# Altium integrated library Microchip PIC16 Part 1.IntLib: 1800 symbols (part 74 of 93)
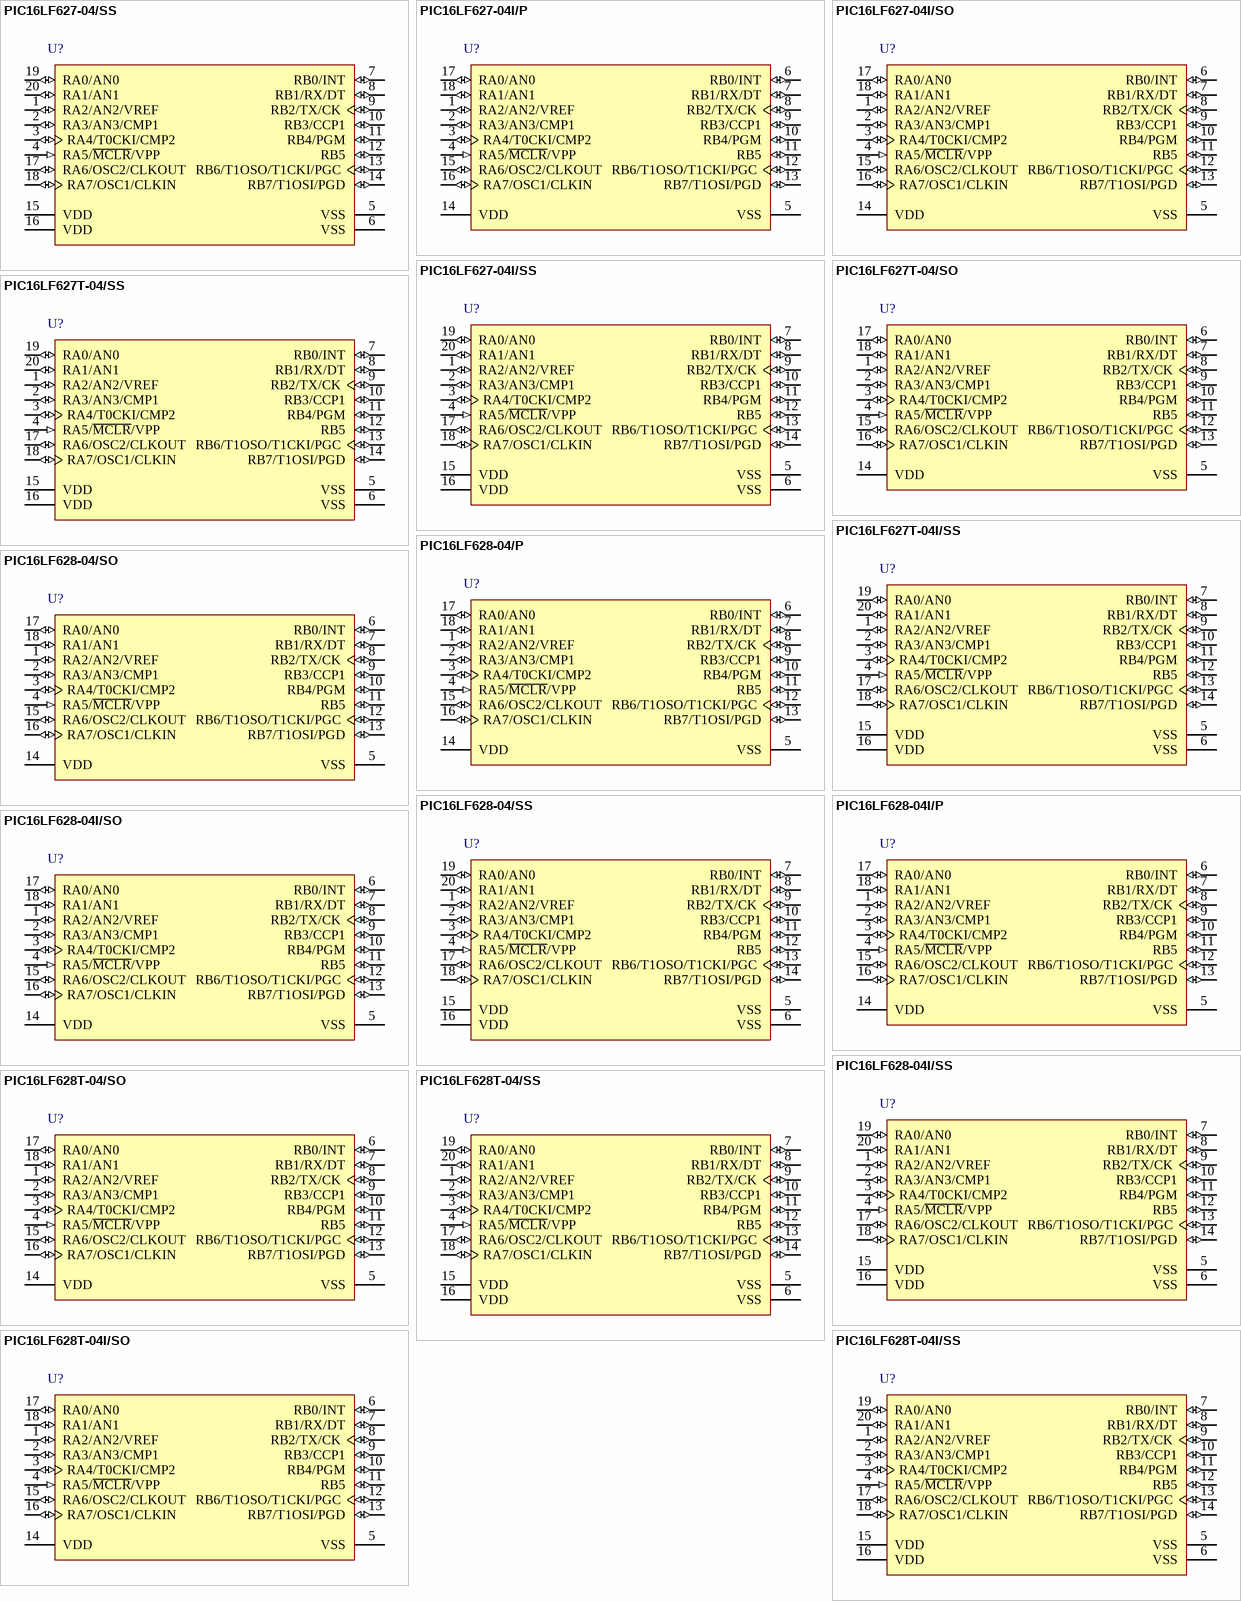
[diagram p172: symbols PIC16LF627-04/SS to PIC16LF628T-04I/SS]

## PIC16LF627-04I/P
designator U?
Flash-Based 8-Bit CMOS Microcontroller, 0.2 MHz, 16 I/O, -40 to 85 degC, 18-pin PDIP (P18), Tube; Manufacturer: Microchip; PartNumber: PIC16LF627-04I/P; Digital Communication: 0 -UART, 1 -A/E/USART, 0 -SPI, 0 -I2C; EEPROM Data Memory (bytes): 128; I/O Pins: 16; Max. CPU Speed MHz: 4; Memory Type: Flash; Operation Voltage Range: 2V - 5.5V; Program Memory KBytes: 1.75; Program Memory KWords: 1; RAM: 224; Timers: 2 - 8-bit, 1 - 16-bit, 0 - 32-bit; DatasheetVersion: Rev. C; PackageVersion: C04-007B, 12/2012; PackageReference: PDIP-P18; PackageDescription: 18-Lead Plastic Dual In-Line, Row Spacing 7.62 mm, 22.86 x 6.6 mm Body, 2.54 mm Pitch; Supplier 1: Digi-Key; Supplier Part Number 1: PIC16LF627-04I/P-ND; Supplier 2: Mouser; Supplier Part Number 2: 579-PIC16LF627-04I/P; Packing: TUBE; RoHS: TRUE; Mounting Technology: Through Hole; ComponentLink1Description: Datasheet; ComponentLink1URL: http://ww1.microchip.com/downloads/en/DeviceDoc/40300C.pdf; ComponentLink2Description: Package Specification; ComponentLink2URL: http://www.microchip.com/stellent/groups/techpub_sg/documents/packagingspec/en012702.pdf; ComponentLink3Description: URL Link1; ComponentLink3URL: Product URL:http://www.microchip.com/datasheet/PIC16F627
footprint MCHP-PDIP-P18 (DIP, 18-Leads, Body 22.83x6.604mm, Pitch 2.54mm)
pins: 1 RA2/AN2/VREF (io), 2 RA3/AN3/CMP1 (io), 3 RA4/T0CKI/CMP2 (io), 4 RA5/~{MCLR}/VPP (in), 5 VSS (power) "Ground reference for logic and I/O pins", 6 RB0/INT (io), 7 RB1/RX/DT (io), 8 RB2/TX/CK (io), 9 RB3/CCP1 (io), 10 RB4/PGM (io), 11 RB5 (io) "Bi-directional I/O port. Interrupt-on-pin change. Can be software programmed for internal weak pull-up.", 12 RB6/T1OSO/T1CKI/PGC (io), 13 RB7/T1OSI/PGD (io), 14 VDD (power) "Positive supply for logic and I/O pins", 15 RA6/OSC2/CLKOUT (io), 16 RA7/OSC1/CLKIN (io), 17 RA0/AN0 (io), 18 RA1/AN1 (io)

## PIC16LF627-04I/SO
designator U?
Flash-Based 8-Bit CMOS Microcontroller, 0.2 MHz, 16 I/O, -40 to 85 degC, 18-pin SOIC (SO18), Tube; Manufacturer: Microchip; PartNumber: PIC16LF627-04I/SO; Digital Communication: 0 -UART, 1 -A/E/USART, 0 -SPI, 0 -I2C; EEPROM Data Memory (bytes): 128; I/O Pins: 16; Max. CPU Speed MHz: 4; Memory Type: Flash; Operation Voltage Range: 2V - 5.5V; Program Memory KBytes: 1.75; Program Memory KWords: 1; RAM: 224; Timers: 2 - 8-bit, 1 - 16-bit, 0 - 32-bit; DatasheetVersion: Rev. C; PackageVersion: C04-051C, 12/2012; PackageReference: SOIC-SO18; PackageDescription: 18-Lead Plastic Small Outline, 7.5 x 11.55 mm Body, 1.27 mm Pitch; Supplier 1: Digi-Key; Supplier Part Number 1: PIC16LF627-04I/SO-ND; Supplier 2: Mouser; Supplier Part Number 2: 579-16LF627-04I/SO; Packing: TUBE; RoHS: TRUE; Mounting Technology: Surface Mount; ComponentLink1Description: Datasheet; ComponentLink1URL: http://ww1.microchip.com/downloads/en/DeviceDoc/40300C.pdf; ComponentLink2Description: Package Specification; ComponentLink2URL: http://www.microchip.com/stellent/groups/techpub_sg/documents/packagingspec/en012702.pdf; ComponentLink3Description: URL Link1; ComponentLink3URL: Product URL:http://www.microchip.com/datasheet/PIC16F627
footprint MCHP-SOIC-SO18_N (SOIC, 18-Leads, Body 11.55x7.5mm, Pitch 1.27mm, IPC Medium Density)
footprint MCHP-SOIC-SO18_L (SOIC, 18-Leads, Body 11.55x7.5mm, Pitch 1.27mm, IPC High Density)
footprint MCHP-SOIC-SO18_M (SOIC, 18-Leads, Body 11.55x7.5mm, Pitch 1.27mm, IPC Low Density)
pins: 1 RA2/AN2/VREF (io), 2 RA3/AN3/CMP1 (io), 3 RA4/T0CKI/CMP2 (io), 4 RA5/~{MCLR}/VPP (in), 5 VSS (power) "Ground reference for logic and I/O pins", 6 RB0/INT (io), 7 RB1/RX/DT (io), 8 RB2/TX/CK (io), 9 RB3/CCP1 (io), 10 RB4/PGM (io), 11 RB5 (io) "Bi-directional I/O port. Interrupt-on-pin change. Can be software programmed for internal weak pull-up.", 12 RB6/T1OSO/T1CKI/PGC (io), 13 RB7/T1OSI/PGD (io), 14 VDD (power) "Positive supply for logic and I/O pins", 15 RA6/OSC2/CLKOUT (io), 16 RA7/OSC1/CLKIN (io), 17 RA0/AN0 (io), 18 RA1/AN1 (io)

## PIC16LF627-04I/SS
designator U?
Flash-Based 8-Bit CMOS Microcontroller, 0.2 MHz, 16 I/O, -40 to 85 degC, 20-pin SSOP (SS20), Tube; Manufacturer: Microchip; PartNumber: PIC16LF627-04I/SS; Digital Communication: 0 -UART, 1 -A/E/USART, 0 -SPI, 0 -I2C; EEPROM Data Memory (bytes): 128; I/O Pins: 16; Max. CPU Speed MHz: 4; Memory Type: Flash; Operation Voltage Range: 2V - 5.5V; Program Memory KBytes: 1.75; Program Memory KWords: 1; RAM: 224; Timers: 2 - 8-bit, 1 - 16-bit, 0 - 32-bit; DatasheetVersion: Rev. C; PackageVersion: C04-072B, 12/2012; PackageReference: SSOP-SS20; PackageDescription: 20-Lead Plastic Shrink Small Outline, 5.3 x 7.2 mm Body, 0.65 mm Pitch; Supplier 1: Digi-Key; Supplier Part Number 1: PIC16LF627-04I/SS-ND; Supplier 2: Mouser; Supplier Part Number 2: 579-16LF627-04I/SS; Packing: TUBE; RoHS: TRUE; Mounting Technology: Surface Mount; ComponentLink1Description: Datasheet; ComponentLink1URL: http://ww1.microchip.com/downloads/en/DeviceDoc/40300C.pdf; ComponentLink2Description: Package Specification; ComponentLink2URL: http://www.microchip.com/stellent/groups/techpub_sg/documents/packagingspec/en012702.pdf; ComponentLink3Description: URL Link1; ComponentLink3URL: Product URL:http://www.microchip.com/datasheet/PIC16F627
footprint MCHP-SSOP-SS20_N (SOP, 20-Leads, Body 7.2x5.3mm, Pitch 0.65mm, IPC Medium Density)
footprint MCHP-SSOP-SS20_L (SOP, 20-Leads, Body 7.2x5.3mm, Pitch 0.65mm, IPC High Density)
footprint MCHP-SSOP-SS20_M (SOP, 20-Leads, Body 7.2x5.3mm, Pitch 0.65mm, IPC Low Density)
pins: 1 RA2/AN2/VREF (io), 2 RA3/AN3/CMP1 (io), 3 RA4/T0CKI/CMP2 (io), 4 RA5/~{MCLR}/VPP (in), 5 VSS (power) "Ground reference for logic and I/O pins", 6 VSS (power) "Ground reference for logic and I/O pins", 7 RB0/INT (io), 8 RB1/RX/DT (io), 9 RB2/TX/CK (io), 10 RB3/CCP1 (io), 11 RB4/PGM (io), 12 RB5 (io) "Bi-directional I/O port. Interrupt-on-pin change. Can be software programmed for internal weak pull-up.", 13 RB6/T1OSO/T1CKI/PGC (io), 14 RB7/T1OSI/PGD (io), 15 VDD (power) "Positive supply for logic and I/O pins", 16 VDD (power) "Positive supply for logic and I/O pins", 17 RA6/OSC2/CLKOUT (io), 18 RA7/OSC1/CLKIN (io), 19 RA0/AN0 (io), 20 RA1/AN1 (io)

## PIC16LF627T-04/SO
designator U?
Flash-Based 8-Bit CMOS Microcontroller, 0.2 MHz, 16 I/O, 0 to 70 degC, 18-pin SOIC (SO18), Tape and Reel; Manufacturer: Microchip; PartNumber: PIC16LF627T-04/SO; Digital Communication: 0 -UART, 1 -A/E/USART, 0 -SPI, 0 -I2C; EEPROM Data Memory (bytes): 128; I/O Pins: 16; Max. CPU Speed MHz: 0.2; Memory Type: Flash; Operation Voltage Range: 2V - 5.5V; Packing: T/R; Program Memory KBytes: 1.75; Program Memory KWords: 1; RAM: 224; Timers: 2 - 8-bit, 1 - 16-bit, 0 - 32-bit; DatasheetVersion: Rev. C; PackageVersion: C04-051C, 12/2012; PackageReference: SOIC-SO18; PackageDescription: 18-Lead Plastic Small Outline, 7.5 x 11.55 mm Body, 1.27 mm Pitch; Supplier 1: Digi-Key; Supplier Part Number 1: PIC16LF627T-04/SO-ND; Supplier 2: Mouser; Supplier Part Number 2: 579-16LF627T-04/SO; Mounting Technology: Surface Mount; ComponentLink1Description: Datasheet; ComponentLink1URL: http://ww1.microchip.com/downloads/en/DeviceDoc/40300C.pdf; ComponentLink2Description: Package Specification; ComponentLink2URL: http://www.microchip.com/stellent/groups/techpub_sg/documents/packagingspec/en012702.pdf; ComponentLink3Description: URL Link1; ComponentLink3URL: Product URL:http://www.microchip.com/datasheet/PIC16F627
footprint MCHP-SOIC-SO18_N (SOIC, 18-Leads, Body 11.55x7.5mm, Pitch 1.27mm, IPC Medium Density)
footprint MCHP-SOIC-SO18_L (SOIC, 18-Leads, Body 11.55x7.5mm, Pitch 1.27mm, IPC High Density)
footprint MCHP-SOIC-SO18_M (SOIC, 18-Leads, Body 11.55x7.5mm, Pitch 1.27mm, IPC Low Density)
pins: 1 RA2/AN2/VREF (io), 2 RA3/AN3/CMP1 (io), 3 RA4/T0CKI/CMP2 (io), 4 RA5/~{MCLR}/VPP (in), 5 VSS (power) "Ground reference for logic and I/O pins", 6 RB0/INT (io), 7 RB1/RX/DT (io), 8 RB2/TX/CK (io), 9 RB3/CCP1 (io), 10 RB4/PGM (io), 11 RB5 (io) "Bi-directional I/O port. Interrupt-on-pin change. Can be software programmed for internal weak pull-up.", 12 RB6/T1OSO/T1CKI/PGC (io), 13 RB7/T1OSI/PGD (io), 14 VDD (power) "Positive supply for logic and I/O pins", 15 RA6/OSC2/CLKOUT (io), 16 RA7/OSC1/CLKIN (io), 17 RA0/AN0 (io), 18 RA1/AN1 (io)

## PIC16LF627T-04/SS
designator U?
Flash-Based 8-Bit CMOS Microcontroller, 0.2 MHz, 16 I/O, 0 to 70 degC, 20-pin SSOP (SS20), Tape and Reel; Manufacturer: Microchip; PartNumber: PIC16LF627T-04/SS; Digital Communication: 0 -UART, 1 -A/E/USART, 0 -SPI, 0 -I2C; EEPROM Data Memory (bytes): 128; I/O Pins: 16; Max. CPU Speed MHz: 0.2; Memory Type: Flash; Operation Voltage Range: 2V - 5.5V; Packing: T/R; Program Memory KBytes: 1.75; Program Memory KWords: 1; RAM: 224; Timers: 2 - 8-bit, 1 - 16-bit, 0 - 32-bit; DatasheetVersion: Rev. C; PackageVersion: C04-072B, 12/2012; PackageReference: SSOP-SS20; PackageDescription: 20-Lead Plastic Shrink Small Outline, 5.3 x 7.2 mm Body, 0.65 mm Pitch; Supplier 1: Digi-Key; Supplier Part Number 1: PIC16LF627T-04/SS-ND; Supplier 2: Mouser; Supplier Part Number 2: 579-16LF627T-04/SS; Mounting Technology: Surface Mount; ComponentLink1Description: Datasheet; ComponentLink1URL: http://ww1.microchip.com/downloads/en/DeviceDoc/40300C.pdf; ComponentLink2Description: Package Specification; ComponentLink2URL: http://www.microchip.com/stellent/groups/techpub_sg/documents/packagingspec/en012702.pdf; ComponentLink3Description: URL Link1; ComponentLink3URL: Product URL:http://www.microchip.com/datasheet/PIC16F627
footprint MCHP-SSOP-SS20_N (SOP, 20-Leads, Body 7.2x5.3mm, Pitch 0.65mm, IPC Medium Density)
footprint MCHP-SSOP-SS20_L (SOP, 20-Leads, Body 7.2x5.3mm, Pitch 0.65mm, IPC High Density)
footprint MCHP-SSOP-SS20_M (SOP, 20-Leads, Body 7.2x5.3mm, Pitch 0.65mm, IPC Low Density)
pins: 1 RA2/AN2/VREF (io), 2 RA3/AN3/CMP1 (io), 3 RA4/T0CKI/CMP2 (io), 4 RA5/~{MCLR}/VPP (in), 5 VSS (power) "Ground reference for logic and I/O pins", 6 VSS (power) "Ground reference for logic and I/O pins", 7 RB0/INT (io), 8 RB1/RX/DT (io), 9 RB2/TX/CK (io), 10 RB3/CCP1 (io), 11 RB4/PGM (io), 12 RB5 (io) "Bi-directional I/O port. Interrupt-on-pin change. Can be software programmed for internal weak pull-up.", 13 RB6/T1OSO/T1CKI/PGC (io), 14 RB7/T1OSI/PGD (io), 15 VDD (power) "Positive supply for logic and I/O pins", 16 VDD (power) "Positive supply for logic and I/O pins", 17 RA6/OSC2/CLKOUT (io), 18 RA7/OSC1/CLKIN (io), 19 RA0/AN0 (io), 20 RA1/AN1 (io)

## PIC16LF627T-04I/SS
designator U?
Flash-Based 8-Bit CMOS Microcontroller, 0.2 MHz, 16 I/O, -40 to 85 degC, 20-pin SSOP (SS20), Tape and Reel; Manufacturer: Microchip; PartNumber: PIC16LF627T-04I/SS; Digital Communication: 0 -UART, 1 -A/E/USART, 0 -SPI, 0 -I2C; EEPROM Data Memory (bytes): 128; I/O Pins: 16; Max. CPU Speed MHz: 0.2; Memory Type: Flash; Operation Voltage Range: 2V - 5.5V; Packing: T/R; Program Memory KBytes: 1.75; Program Memory KWords: 1; RAM: 224; Timers: 2 - 8-bit, 1 - 16-bit, 0 - 32-bit; DatasheetVersion: Rev. C; PackageVersion: C04-072B, 12/2012; PackageReference: SSOP-SS20; PackageDescription: 20-Lead Plastic Shrink Small Outline, 5.3 x 7.2 mm Body, 0.65 mm Pitch; Supplier 1: Digi-Key; Supplier Part Number 1: PIC16LF627T-04ISS-ND; Supplier 2: Mouser; Supplier Part Number 2: 579-16LF627T-04I/SS; Mounting Technology: Surface Mount; ComponentLink1Description: Datasheet; ComponentLink1URL: http://ww1.microchip.com/downloads/en/DeviceDoc/40300C.pdf; ComponentLink2Description: Package Specification; ComponentLink2URL: http://www.microchip.com/stellent/groups/techpub_sg/documents/packagingspec/en012702.pdf; ComponentLink3Description: URL Link1; ComponentLink3URL: Product URL:http://www.microchip.com/datasheet/PIC16F627
footprint MCHP-SSOP-SS20_N (SOP, 20-Leads, Body 7.2x5.3mm, Pitch 0.65mm, IPC Medium Density)
footprint MCHP-SSOP-SS20_L (SOP, 20-Leads, Body 7.2x5.3mm, Pitch 0.65mm, IPC High Density)
footprint MCHP-SSOP-SS20_M (SOP, 20-Leads, Body 7.2x5.3mm, Pitch 0.65mm, IPC Low Density)
pins: 1 RA2/AN2/VREF (io), 2 RA3/AN3/CMP1 (io), 3 RA4/T0CKI/CMP2 (io), 4 RA5/~{MCLR}/VPP (in), 5 VSS (power) "Ground reference for logic and I/O pins", 6 VSS (power) "Ground reference for logic and I/O pins", 7 RB0/INT (io), 8 RB1/RX/DT (io), 9 RB2/TX/CK (io), 10 RB3/CCP1 (io), 11 RB4/PGM (io), 12 RB5 (io) "Bi-directional I/O port. Interrupt-on-pin change. Can be software programmed for internal weak pull-up.", 13 RB6/T1OSO/T1CKI/PGC (io), 14 RB7/T1OSI/PGD (io), 15 VDD (power) "Positive supply for logic and I/O pins", 16 VDD (power) "Positive supply for logic and I/O pins", 17 RA6/OSC2/CLKOUT (io), 18 RA7/OSC1/CLKIN (io), 19 RA0/AN0 (io), 20 RA1/AN1 (io)

## PIC16LF628-04/P
designator U?
Flash-Based 8-Bit CMOS Microcontroller, 4 MHz, 15 I/O, 0 to 70 degC, 18-pin PDIP (P18), Tube; Manufacturer: Microchip; PartNumber: PIC16LF628-04/P; Digital Communication: 0 -UART, 1 -A/E/USART, 0 -SPI, 0 -I2C; EEPROM Data Memory (bytes): 128; I/O Pins: 15; Max. CPU Speed MHz: 4; Memory Type: Flash; Operation Voltage Range: 2V - 5.5V; Program Memory KBytes: 3.5; Program Memory KWords: 2; RAM: 224; Timers: 2 - 8-bit, 1 - 16-bit; DatasheetVersion: Rev. C; PackageVersion: C04-007B, 12/2012; PackageReference: PDIP-P18; PackageDescription: 18-Lead Plastic Dual In-Line, Row Spacing 7.62 mm, 22.86 x 6.6 mm Body, 2.54 mm Pitch; Supplier 1: Digi-Key; Supplier Part Number 1: PIC16LF628-04/P-ND; Supplier 2: Newark; Supplier Part Number 2: 96K3893; Supplier 3: Mouser; Supplier Part Number 3: 579-PIC16LF62804P; Packing: TUBE; Mounting Technology: Through Hole; ComponentLink1Description: Datasheet; ComponentLink1URL: http://ww1.microchip.com/downloads/en/DeviceDoc/40300C.pdf; ComponentLink2Description: Package Specification; ComponentLink2URL: http://www.microchip.com/stellent/groups/techpub_sg/documents/packagingspec/en012702.pdf; ComponentLink3Description: URL Link1; ComponentLink3URL: Product URL:http://www.microchip.com/datasheet/PIC16F628
footprint MCHP-PDIP-P18 (DIP, 18-Leads, Body 22.83x6.604mm, Pitch 2.54mm)
pins: 1 RA2/AN2/VREF (io), 2 RA3/AN3/CMP1 (io), 3 RA4/T0CKI/CMP2 (io), 4 RA5/~{MCLR}/VPP (in), 5 VSS (power) "Ground reference for logic and I/O pins", 6 RB0/INT (io), 7 RB1/RX/DT (io), 8 RB2/TX/CK (io), 9 RB3/CCP1 (io), 10 RB4/PGM (io), 11 RB5 (io) "Bi-directional I/O port. Interrupt-on-pin change. Can be software programmed for internal weak pull-up.", 12 RB6/T1OSO/T1CKI/PGC (io), 13 RB7/T1OSI/PGD (io), 14 VDD (power) "Positive supply for logic and I/O pins", 15 RA6/OSC2/CLKOUT (io), 16 RA7/OSC1/CLKIN (io), 17 RA0/AN0 (io), 18 RA1/AN1 (io)

## PIC16LF628-04/SO
designator U?
Flash-Based 8-Bit CMOS Microcontroller, 4 MHz, 15 I/O, 0 to 70 degC, 18-pin SOIC (SO18), Tube; Manufacturer: Microchip; PartNumber: PIC16LF628-04/SO; Digital Communication: 0 -UART, 1 -A/E/USART, 0 -SPI, 0 -I2C; EEPROM Data Memory (bytes): 128; I/O Pins: 15; Max. CPU Speed MHz: 4; Memory Type: Flash; Operation Voltage Range: 2V - 5.5V; Program Memory KBytes: 3.5; Program Memory KWords: 2; RAM: 224; Timers: 2 - 8-bit, 1 - 16-bit; DatasheetVersion: Rev. C; PackageVersion: C04-051C, 12/2012; PackageReference: SOIC-SO18; PackageDescription: 18-Lead Plastic Small Outline, 7.5 x 11.55 mm Body, 1.27 mm Pitch; Supplier 1: Digi-Key; Supplier Part Number 1: PIC16LF628-04/SO-ND; Supplier 2: Newark; Supplier Part Number 2: 54K2831; Supplier 3: Mouser; Supplier Part Number 3: 579-PIC16LF62804SO; Packing: TUBE; Mounting Technology: Surface Mount; ComponentLink1Description: Datasheet; ComponentLink1URL: http://ww1.microchip.com/downloads/en/DeviceDoc/40300C.pdf; ComponentLink2Description: Package Specification; ComponentLink2URL: http://www.microchip.com/stellent/groups/techpub_sg/documents/packagingspec/en012702.pdf; ComponentLink3Description: URL Link1; ComponentLink3URL: Product URL:http://www.microchip.com/datasheet/PIC16F628
footprint MCHP-SOIC-SO18_N (SOIC, 18-Leads, Body 11.55x7.5mm, Pitch 1.27mm, IPC Medium Density)
footprint MCHP-SOIC-SO18_L (SOIC, 18-Leads, Body 11.55x7.5mm, Pitch 1.27mm, IPC High Density)
footprint MCHP-SOIC-SO18_M (SOIC, 18-Leads, Body 11.55x7.5mm, Pitch 1.27mm, IPC Low Density)
pins: 1 RA2/AN2/VREF (io), 2 RA3/AN3/CMP1 (io), 3 RA4/T0CKI/CMP2 (io), 4 RA5/~{MCLR}/VPP (in), 5 VSS (power) "Ground reference for logic and I/O pins", 6 RB0/INT (io), 7 RB1/RX/DT (io), 8 RB2/TX/CK (io), 9 RB3/CCP1 (io), 10 RB4/PGM (io), 11 RB5 (io) "Bi-directional I/O port. Interrupt-on-pin change. Can be software programmed for internal weak pull-up.", 12 RB6/T1OSO/T1CKI/PGC (io), 13 RB7/T1OSI/PGD (io), 14 VDD (power) "Positive supply for logic and I/O pins", 15 RA6/OSC2/CLKOUT (io), 16 RA7/OSC1/CLKIN (io), 17 RA0/AN0 (io), 18 RA1/AN1 (io)

## PIC16LF628-04/SS
designator U?
Flash-Based 8-Bit CMOS Microcontroller, 4 MHz, 15 I/O, 0 to 70 degC, 20-pin SSOP (SS20), Tube; Manufacturer: Microchip; PartNumber: PIC16LF628-04/SS; Digital Communication: 0 -UART, 1 -A/E/USART, 0 -SPI, 0 -I2C; EEPROM Data Memory (bytes): 128; I/O Pins: 15; Max. CPU Speed MHz: 4; Memory Type: Flash; Operation Voltage Range: 2V - 5.5V; Program Memory KBytes: 3.5; Program Memory KWords: 2; RAM: 224; Timers: 2 - 8-bit, 1 - 16-bit; DatasheetVersion: Rev. C; PackageVersion: C04-072B, 12/2012; PackageReference: SSOP-SS20; PackageDescription: 20-Lead Plastic Shrink Small Outline, 5.3 x 7.2 mm Body, 0.65 mm Pitch; Supplier 1: Digi-Key; Supplier Part Number 1: PIC16LF628-04/SS-ND; Supplier 2: Mouser; Supplier Part Number 2: 579-PIC16LF628-04/SS; Packing: TUBE; Mounting Technology: Surface Mount; ComponentLink1Description: Datasheet; ComponentLink1URL: http://ww1.microchip.com/downloads/en/DeviceDoc/40300C.pdf; ComponentLink2Description: Package Specification; ComponentLink2URL: http://www.microchip.com/stellent/groups/techpub_sg/documents/packagingspec/en012702.pdf; ComponentLink3Description: URL Link1; ComponentLink3URL: Product URL:http://www.microchip.com/datasheet/PIC16F628
footprint MCHP-SSOP-SS20_N (SOP, 20-Leads, Body 7.2x5.3mm, Pitch 0.65mm, IPC Medium Density)
footprint MCHP-SSOP-SS20_L (SOP, 20-Leads, Body 7.2x5.3mm, Pitch 0.65mm, IPC High Density)
footprint MCHP-SSOP-SS20_M (SOP, 20-Leads, Body 7.2x5.3mm, Pitch 0.65mm, IPC Low Density)
pins: 1 RA2/AN2/VREF (io), 2 RA3/AN3/CMP1 (io), 3 RA4/T0CKI/CMP2 (io), 4 RA5/~{MCLR}/VPP (in), 5 VSS (power) "Ground reference for logic and I/O pins", 6 VSS (power) "Ground reference for logic and I/O pins", 7 RB0/INT (io), 8 RB1/RX/DT (io), 9 RB2/TX/CK (io), 10 RB3/CCP1 (io), 11 RB4/PGM (io), 12 RB5 (io) "Bi-directional I/O port. Interrupt-on-pin change. Can be software programmed for internal weak pull-up.", 13 RB6/T1OSO/T1CKI/PGC (io), 14 RB7/T1OSI/PGD (io), 15 VDD (power) "Positive supply for logic and I/O pins", 16 VDD (power) "Positive supply for logic and I/O pins", 17 RA6/OSC2/CLKOUT (io), 18 RA7/OSC1/CLKIN (io), 19 RA0/AN0 (io), 20 RA1/AN1 (io)

## PIC16LF628-04I/P
designator U?
Flash-Based 8-Bit CMOS Microcontroller, 4 MHz, 15 I/O, -40 to 85 degC, 18-pin PDIP (P18), Tube; Manufacturer: Microchip; PartNumber: PIC16LF628-04I/P; Digital Communication: 0 -UART, 1 -A/E/USART, 0 -SPI, 0 -I2C; EEPROM Data Memory (bytes): 128; I/O Pins: 15; Max. CPU Speed MHz: 4; Memory Type: Flash; Operation Voltage Range: 2V - 5.5V; Program Memory KBytes: 3.5; Program Memory KWords: 2; RAM: 224; Timers: 2 - 8-bit, 1 - 16-bit; DatasheetVersion: Rev. C; PackageVersion: C04-007B, 12/2012; PackageReference: PDIP-P18; PackageDescription: 18-Lead Plastic Dual In-Line, Row Spacing 7.62 mm, 22.86 x 6.6 mm Body, 2.54 mm Pitch; Supplier 1: Digi-Key; Supplier Part Number 1: PIC16LF628-04I/P-ND; Supplier 2: Farnell; Supplier Part Number 2: 9761594; Supplier 3: Newark; Supplier Part Number 3: 97K7476; Supplier 4: Newark; Supplier Part Number 4: 96K3894; Supplier 5: Mouser; Supplier Part Number 5: 579-PIC16LF628-04I/P; Packing: TUBE; Mounting Technology: Through Hole; ComponentLink1Description: Datasheet; ComponentLink1URL: http://ww1.microchip.com/downloads/en/DeviceDoc/40300C.pdf; ComponentLink2Description: Package Specification; ComponentLink2URL: http://www.microchip.com/stellent/groups/techpub_sg/documents/packagingspec/en012702.pdf; ComponentLink3Description: URL Link1; ComponentLink3URL: Product URL:http://www.microchip.com/datasheet/PIC16F628
footprint MCHP-PDIP-P18 (DIP, 18-Leads, Body 22.83x6.604mm, Pitch 2.54mm)
pins: 1 RA2/AN2/VREF (io), 2 RA3/AN3/CMP1 (io), 3 RA4/T0CKI/CMP2 (io), 4 RA5/~{MCLR}/VPP (in), 5 VSS (power) "Ground reference for logic and I/O pins", 6 RB0/INT (io), 7 RB1/RX/DT (io), 8 RB2/TX/CK (io), 9 RB3/CCP1 (io), 10 RB4/PGM (io), 11 RB5 (io) "Bi-directional I/O port. Interrupt-on-pin change. Can be software programmed for internal weak pull-up.", 12 RB6/T1OSO/T1CKI/PGC (io), 13 RB7/T1OSI/PGD (io), 14 VDD (power) "Positive supply for logic and I/O pins", 15 RA6/OSC2/CLKOUT (io), 16 RA7/OSC1/CLKIN (io), 17 RA0/AN0 (io), 18 RA1/AN1 (io)

## PIC16LF628-04I/SO
designator U?
Flash-Based 8-Bit CMOS Microcontroller, 4 MHz, 15 I/O, -40 to 85 degC, 18-pin SOIC (SO18), Tube; Manufacturer: Microchip; PartNumber: PIC16LF628-04I/SO; Digital Communication: 0 -UART, 1 -A/E/USART, 0 -SPI, 0 -I2C; EEPROM Data Memory (bytes): 128; I/O Pins: 15; Max. CPU Speed MHz: 4; Memory Type: Flash; Operation Voltage Range: 2V - 5.5V; Program Memory KBytes: 3.5; Program Memory KWords: 2; RAM: 224; Timers: 2 - 8-bit, 1 - 16-bit; DatasheetVersion: Rev. C; PackageVersion: C04-051C, 12/2012; PackageReference: SOIC-SO18; PackageDescription: 18-Lead Plastic Small Outline, 7.5 x 11.55 mm Body, 1.27 mm Pitch; Supplier 1: Digi-Key; Supplier Part Number 1: PIC16LF628-04I/SO-ND; Supplier 2: Farnell; Supplier Part Number 2: 9761608; Supplier 3: Mouser; Supplier Part Number 3: 579-16LF628-04I/SO; Packing: TUBE; Mounting Technology: Surface Mount; ComponentLink1Description: Datasheet; ComponentLink1URL: http://ww1.microchip.com/downloads/en/DeviceDoc/40300C.pdf; ComponentLink2Description: Package Specification; ComponentLink2URL: http://www.microchip.com/stellent/groups/techpub_sg/documents/packagingspec/en012702.pdf; ComponentLink3Description: URL Link1; ComponentLink3URL: Product URL:http://www.microchip.com/datasheet/PIC16F628
footprint MCHP-SOIC-SO18_N (SOIC, 18-Leads, Body 11.55x7.5mm, Pitch 1.27mm, IPC Medium Density)
footprint MCHP-SOIC-SO18_L (SOIC, 18-Leads, Body 11.55x7.5mm, Pitch 1.27mm, IPC High Density)
footprint MCHP-SOIC-SO18_M (SOIC, 18-Leads, Body 11.55x7.5mm, Pitch 1.27mm, IPC Low Density)
pins: 1 RA2/AN2/VREF (io), 2 RA3/AN3/CMP1 (io), 3 RA4/T0CKI/CMP2 (io), 4 RA5/~{MCLR}/VPP (in), 5 VSS (power) "Ground reference for logic and I/O pins", 6 RB0/INT (io), 7 RB1/RX/DT (io), 8 RB2/TX/CK (io), 9 RB3/CCP1 (io), 10 RB4/PGM (io), 11 RB5 (io) "Bi-directional I/O port. Interrupt-on-pin change. Can be software programmed for internal weak pull-up.", 12 RB6/T1OSO/T1CKI/PGC (io), 13 RB7/T1OSI/PGD (io), 14 VDD (power) "Positive supply for logic and I/O pins", 15 RA6/OSC2/CLKOUT (io), 16 RA7/OSC1/CLKIN (io), 17 RA0/AN0 (io), 18 RA1/AN1 (io)

## PIC16LF628-04I/SS
designator U?
Flash-Based 8-Bit CMOS Microcontroller, 4 MHz, 15 I/O, -40 to 85 degC, 20-pin SSOP (SS20), Tube; Manufacturer: Microchip; PartNumber: PIC16LF628-04I/SS; Digital Communication: 0 -UART, 1 -A/E/USART, 0 -SPI, 0 -I2C; EEPROM Data Memory (bytes): 128; I/O Pins: 15; Max. CPU Speed MHz: 4; Memory Type: Flash; Operation Voltage Range: 2V - 5.5V; Program Memory KBytes: 3.5; Program Memory KWords: 2; RAM: 224; Timers: 2 - 8-bit, 1 - 16-bit; DatasheetVersion: Rev. C; PackageVersion: C04-072B, 12/2012; PackageReference: SSOP-SS20; PackageDescription: 20-Lead Plastic Shrink Small Outline, 5.3 x 7.2 mm Body, 0.65 mm Pitch; Supplier 1: Digi-Key; Supplier Part Number 1: PIC16LF628-04I/SS-ND; Supplier 2: Farnell; Supplier Part Number 2: 9761624; Supplier 3: Newark; Supplier Part Number 3: 97K7477; Supplier 4: Mouser; Supplier Part Number 4: 579-16LF628-04I/SS; Packing: TUBE; Mounting Technology: Surface Mount; ComponentLink1Description: Datasheet; ComponentLink1URL: http://ww1.microchip.com/downloads/en/DeviceDoc/40300C.pdf; ComponentLink2Description: Package Specification; ComponentLink2URL: http://www.microchip.com/stellent/groups/techpub_sg/documents/packagingspec/en012702.pdf; ComponentLink3Description: URL Link1; ComponentLink3URL: Product URL:http://www.microchip.com/datasheet/PIC16F628
footprint MCHP-SSOP-SS20_N (SOP, 20-Leads, Body 7.2x5.3mm, Pitch 0.65mm, IPC Medium Density)
footprint MCHP-SSOP-SS20_L (SOP, 20-Leads, Body 7.2x5.3mm, Pitch 0.65mm, IPC High Density)
footprint MCHP-SSOP-SS20_M (SOP, 20-Leads, Body 7.2x5.3mm, Pitch 0.65mm, IPC Low Density)
pins: 1 RA2/AN2/VREF (io), 2 RA3/AN3/CMP1 (io), 3 RA4/T0CKI/CMP2 (io), 4 RA5/~{MCLR}/VPP (in), 5 VSS (power) "Ground reference for logic and I/O pins", 6 VSS (power) "Ground reference for logic and I/O pins", 7 RB0/INT (io), 8 RB1/RX/DT (io), 9 RB2/TX/CK (io), 10 RB3/CCP1 (io), 11 RB4/PGM (io), 12 RB5 (io) "Bi-directional I/O port. Interrupt-on-pin change. Can be software programmed for internal weak pull-up.", 13 RB6/T1OSO/T1CKI/PGC (io), 14 RB7/T1OSI/PGD (io), 15 VDD (power) "Positive supply for logic and I/O pins", 16 VDD (power) "Positive supply for logic and I/O pins", 17 RA6/OSC2/CLKOUT (io), 18 RA7/OSC1/CLKIN (io), 19 RA0/AN0 (io), 20 RA1/AN1 (io)

## PIC16LF628T-04/SO
designator U?
Flash-Based 8-Bit CMOS Microcontroller, 4 MHz, 15 I/O, 0 to 70 degC, 18-pin SOIC (SO18), Tape and Reel; Manufacturer: Microchip; PartNumber: PIC16LF628T-04/SO; Digital Communication: 0 -UART, 1 -A/E/USART, 0 -SPI, 0 -I2C; EEPROM Data Memory (bytes): 128; I/O Pins: 15; Max. CPU Speed MHz: 4; Memory Type: Flash; Operation Voltage Range: 2V - 5.5V; Packing: T/R; Program Memory KBytes: 3.5; Program Memory KWords: 2; RAM: 224; Timers: 2 - 8-bit, 1 - 16-bit; DatasheetVersion: Rev. C; PackageVersion: C04-051C, 12/2012; PackageReference: SOIC-SO18; PackageDescription: 18-Lead Plastic Small Outline, 7.5 x 11.55 mm Body, 1.27 mm Pitch; Supplier 1: Digi-Key; Supplier Part Number 1: PIC16LF628T-04/SO-ND; Supplier 2: Mouser; Supplier Part Number 2: 579-16LF628T-04/SO; Mounting Technology: Surface Mount; ComponentLink1Description: Datasheet; ComponentLink1URL: http://ww1.microchip.com/downloads/en/DeviceDoc/40300C.pdf; ComponentLink2Description: Package Specification; ComponentLink2URL: http://www.microchip.com/stellent/groups/techpub_sg/documents/packagingspec/en012702.pdf; ComponentLink3Description: URL Link1; ComponentLink3URL: Product URL:http://www.microchip.com/datasheet/PIC16F628
footprint MCHP-SOIC-SO18_N (SOIC, 18-Leads, Body 11.55x7.5mm, Pitch 1.27mm, IPC Medium Density)
footprint MCHP-SOIC-SO18_L (SOIC, 18-Leads, Body 11.55x7.5mm, Pitch 1.27mm, IPC High Density)
footprint MCHP-SOIC-SO18_M (SOIC, 18-Leads, Body 11.55x7.5mm, Pitch 1.27mm, IPC Low Density)
pins: 1 RA2/AN2/VREF (io), 2 RA3/AN3/CMP1 (io), 3 RA4/T0CKI/CMP2 (io), 4 RA5/~{MCLR}/VPP (in), 5 VSS (power) "Ground reference for logic and I/O pins", 6 RB0/INT (io), 7 RB1/RX/DT (io), 8 RB2/TX/CK (io), 9 RB3/CCP1 (io), 10 RB4/PGM (io), 11 RB5 (io) "Bi-directional I/O port. Interrupt-on-pin change. Can be software programmed for internal weak pull-up.", 12 RB6/T1OSO/T1CKI/PGC (io), 13 RB7/T1OSI/PGD (io), 14 VDD (power) "Positive supply for logic and I/O pins", 15 RA6/OSC2/CLKOUT (io), 16 RA7/OSC1/CLKIN (io), 17 RA0/AN0 (io), 18 RA1/AN1 (io)

## PIC16LF628T-04/SS
designator U?
Flash-Based 8-Bit CMOS Microcontroller, 4 MHz, 15 I/O, 0 to 70 degC, 20-pin SSOP (SS20), Tape and Reel; Manufacturer: Microchip; PartNumber: PIC16LF628T-04/SS; Digital Communication: 0 -UART, 1 -A/E/USART, 0 -SPI, 0 -I2C; EEPROM Data Memory (bytes): 128; I/O Pins: 15; Max. CPU Speed MHz: 4; Memory Type: Flash; Operation Voltage Range: 2V - 5.5V; Packing: T/R; Program Memory KBytes: 3.5; Program Memory KWords: 2; RAM: 224; Timers: 2 - 8-bit, 1 - 16-bit; DatasheetVersion: Rev. C; PackageVersion: C04-072B, 12/2012; PackageReference: SSOP-SS20; PackageDescription: 20-Lead Plastic Shrink Small Outline, 5.3 x 7.2 mm Body, 0.65 mm Pitch; Supplier 1: Digi-Key; Supplier Part Number 1: PIC16LF628T-04/SS-ND; Supplier 2: Mouser; Supplier Part Number 2: 579-16LF628T-04/SS; Mounting Technology: Surface Mount; ComponentLink1Description: Datasheet; ComponentLink1URL: http://ww1.microchip.com/downloads/en/DeviceDoc/40300C.pdf; ComponentLink2Description: Package Specification; ComponentLink2URL: http://www.microchip.com/stellent/groups/techpub_sg/documents/packagingspec/en012702.pdf; ComponentLink3Description: URL Link1; ComponentLink3URL: Product URL:http://www.microchip.com/datasheet/PIC16F628
footprint MCHP-SSOP-SS20_N (SOP, 20-Leads, Body 7.2x5.3mm, Pitch 0.65mm, IPC Medium Density)
footprint MCHP-SSOP-SS20_L (SOP, 20-Leads, Body 7.2x5.3mm, Pitch 0.65mm, IPC High Density)
footprint MCHP-SSOP-SS20_M (SOP, 20-Leads, Body 7.2x5.3mm, Pitch 0.65mm, IPC Low Density)
pins: 1 RA2/AN2/VREF (io), 2 RA3/AN3/CMP1 (io), 3 RA4/T0CKI/CMP2 (io), 4 RA5/~{MCLR}/VPP (in), 5 VSS (power) "Ground reference for logic and I/O pins", 6 VSS (power) "Ground reference for logic and I/O pins", 7 RB0/INT (io), 8 RB1/RX/DT (io), 9 RB2/TX/CK (io), 10 RB3/CCP1 (io), 11 RB4/PGM (io), 12 RB5 (io) "Bi-directional I/O port. Interrupt-on-pin change. Can be software programmed for internal weak pull-up.", 13 RB6/T1OSO/T1CKI/PGC (io), 14 RB7/T1OSI/PGD (io), 15 VDD (power) "Positive supply for logic and I/O pins", 16 VDD (power) "Positive supply for logic and I/O pins", 17 RA6/OSC2/CLKOUT (io), 18 RA7/OSC1/CLKIN (io), 19 RA0/AN0 (io), 20 RA1/AN1 (io)

## PIC16LF628T-04I/SO
designator U?
Flash-Based 8-Bit CMOS Microcontroller, 4 MHz, 15 I/O, -40 to 85 degC, 18-pin SOIC (SO18), Tape and Reel; Manufacturer: Microchip; PartNumber: PIC16LF628T-04I/SO; Digital Communication: 0 -UART, 1 -A/E/USART, 0 -SPI, 0 -I2C; EEPROM Data Memory (bytes): 128; I/O Pins: 15; Max. CPU Speed MHz: 4; Memory Type: Flash; Operation Voltage Range: 2V - 5.5V; Packing: T/R; Program Memory KBytes: 3.5; Program Memory KWords: 2; RAM: 224; Timers: 2 - 8-bit, 1 - 16-bit; DatasheetVersion: Rev. C; PackageVersion: C04-051C, 12/2012; PackageReference: SOIC-SO18; PackageDescription: 18-Lead Plastic Small Outline, 7.5 x 11.55 mm Body, 1.27 mm Pitch; Supplier 1: Digi-Key; Supplier Part Number 1: PIC16LF628T-04ISO-ND; Supplier 2: Mouser; Supplier Part Number 2: 579-16LF628T-04I/SO; Mounting Technology: Surface Mount; ComponentLink1Description: Datasheet; ComponentLink1URL: http://ww1.microchip.com/downloads/en/DeviceDoc/40300C.pdf; ComponentLink2Description: Package Specification; ComponentLink2URL: http://www.microchip.com/stellent/groups/techpub_sg/documents/packagingspec/en012702.pdf; ComponentLink3Description: URL Link1; ComponentLink3URL: Product URL:http://www.microchip.com/datasheet/PIC16F628
footprint MCHP-SOIC-SO18_N (SOIC, 18-Leads, Body 11.55x7.5mm, Pitch 1.27mm, IPC Medium Density)
footprint MCHP-SOIC-SO18_L (SOIC, 18-Leads, Body 11.55x7.5mm, Pitch 1.27mm, IPC High Density)
footprint MCHP-SOIC-SO18_M (SOIC, 18-Leads, Body 11.55x7.5mm, Pitch 1.27mm, IPC Low Density)
pins: 1 RA2/AN2/VREF (io), 2 RA3/AN3/CMP1 (io), 3 RA4/T0CKI/CMP2 (io), 4 RA5/~{MCLR}/VPP (in), 5 VSS (power) "Ground reference for logic and I/O pins", 6 RB0/INT (io), 7 RB1/RX/DT (io), 8 RB2/TX/CK (io), 9 RB3/CCP1 (io), 10 RB4/PGM (io), 11 RB5 (io) "Bi-directional I/O port. Interrupt-on-pin change. Can be software programmed for internal weak pull-up.", 12 RB6/T1OSO/T1CKI/PGC (io), 13 RB7/T1OSI/PGD (io), 14 VDD (power) "Positive supply for logic and I/O pins", 15 RA6/OSC2/CLKOUT (io), 16 RA7/OSC1/CLKIN (io), 17 RA0/AN0 (io), 18 RA1/AN1 (io)

## PIC16LF628T-04I/SS
designator U?
Flash-Based 8-Bit CMOS Microcontroller, 4 MHz, 15 I/O, -40 to 85 degC, 20-pin SSOP (SS20), Tape and Reel; Manufacturer: Microchip; PartNumber: PIC16LF628T-04I/SS; Digital Communication: 0 -UART, 1 -A/E/USART, 0 -SPI, 0 -I2C; EEPROM Data Memory (bytes): 128; I/O Pins: 15; Max. CPU Speed MHz: 4; Memory Type: Flash; Operation Voltage Range: 2V - 5.5V; Packing: T/R; Program Memory KBytes: 3.5; Program Memory KWords: 2; RAM: 224; Timers: 2 - 8-bit, 1 - 16-bit; DatasheetVersion: Rev. C; PackageVersion: C04-072B, 12/2012; PackageReference: SSOP-SS20; PackageDescription: 20-Lead Plastic Shrink Small Outline, 5.3 x 7.2 mm Body, 0.65 mm Pitch; Supplier 1: Digi-Key; Supplier Part Number 1: PIC16LF628T-04ISS-ND; Supplier 2: Mouser; Supplier Part Number 2: 579-16LF628T-04I/SS; Mounting Technology: Surface Mount; ComponentLink1Description: Datasheet; ComponentLink1URL: http://ww1.microchip.com/downloads/en/DeviceDoc/40300C.pdf; ComponentLink2Description: Package Specification; ComponentLink2URL: http://www.microchip.com/stellent/groups/techpub_sg/documents/packagingspec/en012702.pdf; ComponentLink3Description: URL Link1; ComponentLink3URL: Product URL:http://www.microchip.com/datasheet/PIC16F628
footprint MCHP-SSOP-SS20_N (SOP, 20-Leads, Body 7.2x5.3mm, Pitch 0.65mm, IPC Medium Density)
footprint MCHP-SSOP-SS20_L (SOP, 20-Leads, Body 7.2x5.3mm, Pitch 0.65mm, IPC High Density)
footprint MCHP-SSOP-SS20_M (SOP, 20-Leads, Body 7.2x5.3mm, Pitch 0.65mm, IPC Low Density)
pins: 1 RA2/AN2/VREF (io), 2 RA3/AN3/CMP1 (io), 3 RA4/T0CKI/CMP2 (io), 4 RA5/~{MCLR}/VPP (in), 5 VSS (power) "Ground reference for logic and I/O pins", 6 VSS (power) "Ground reference for logic and I/O pins", 7 RB0/INT (io), 8 RB1/RX/DT (io), 9 RB2/TX/CK (io), 10 RB3/CCP1 (io), 11 RB4/PGM (io), 12 RB5 (io) "Bi-directional I/O port. Interrupt-on-pin change. Can be software programmed for internal weak pull-up.", 13 RB6/T1OSO/T1CKI/PGC (io), 14 RB7/T1OSI/PGD (io), 15 VDD (power) "Positive supply for logic and I/O pins", 16 VDD (power) "Positive supply for logic and I/O pins", 17 RA6/OSC2/CLKOUT (io), 18 RA7/OSC1/CLKIN (io), 19 RA0/AN0 (io), 20 RA1/AN1 (io)

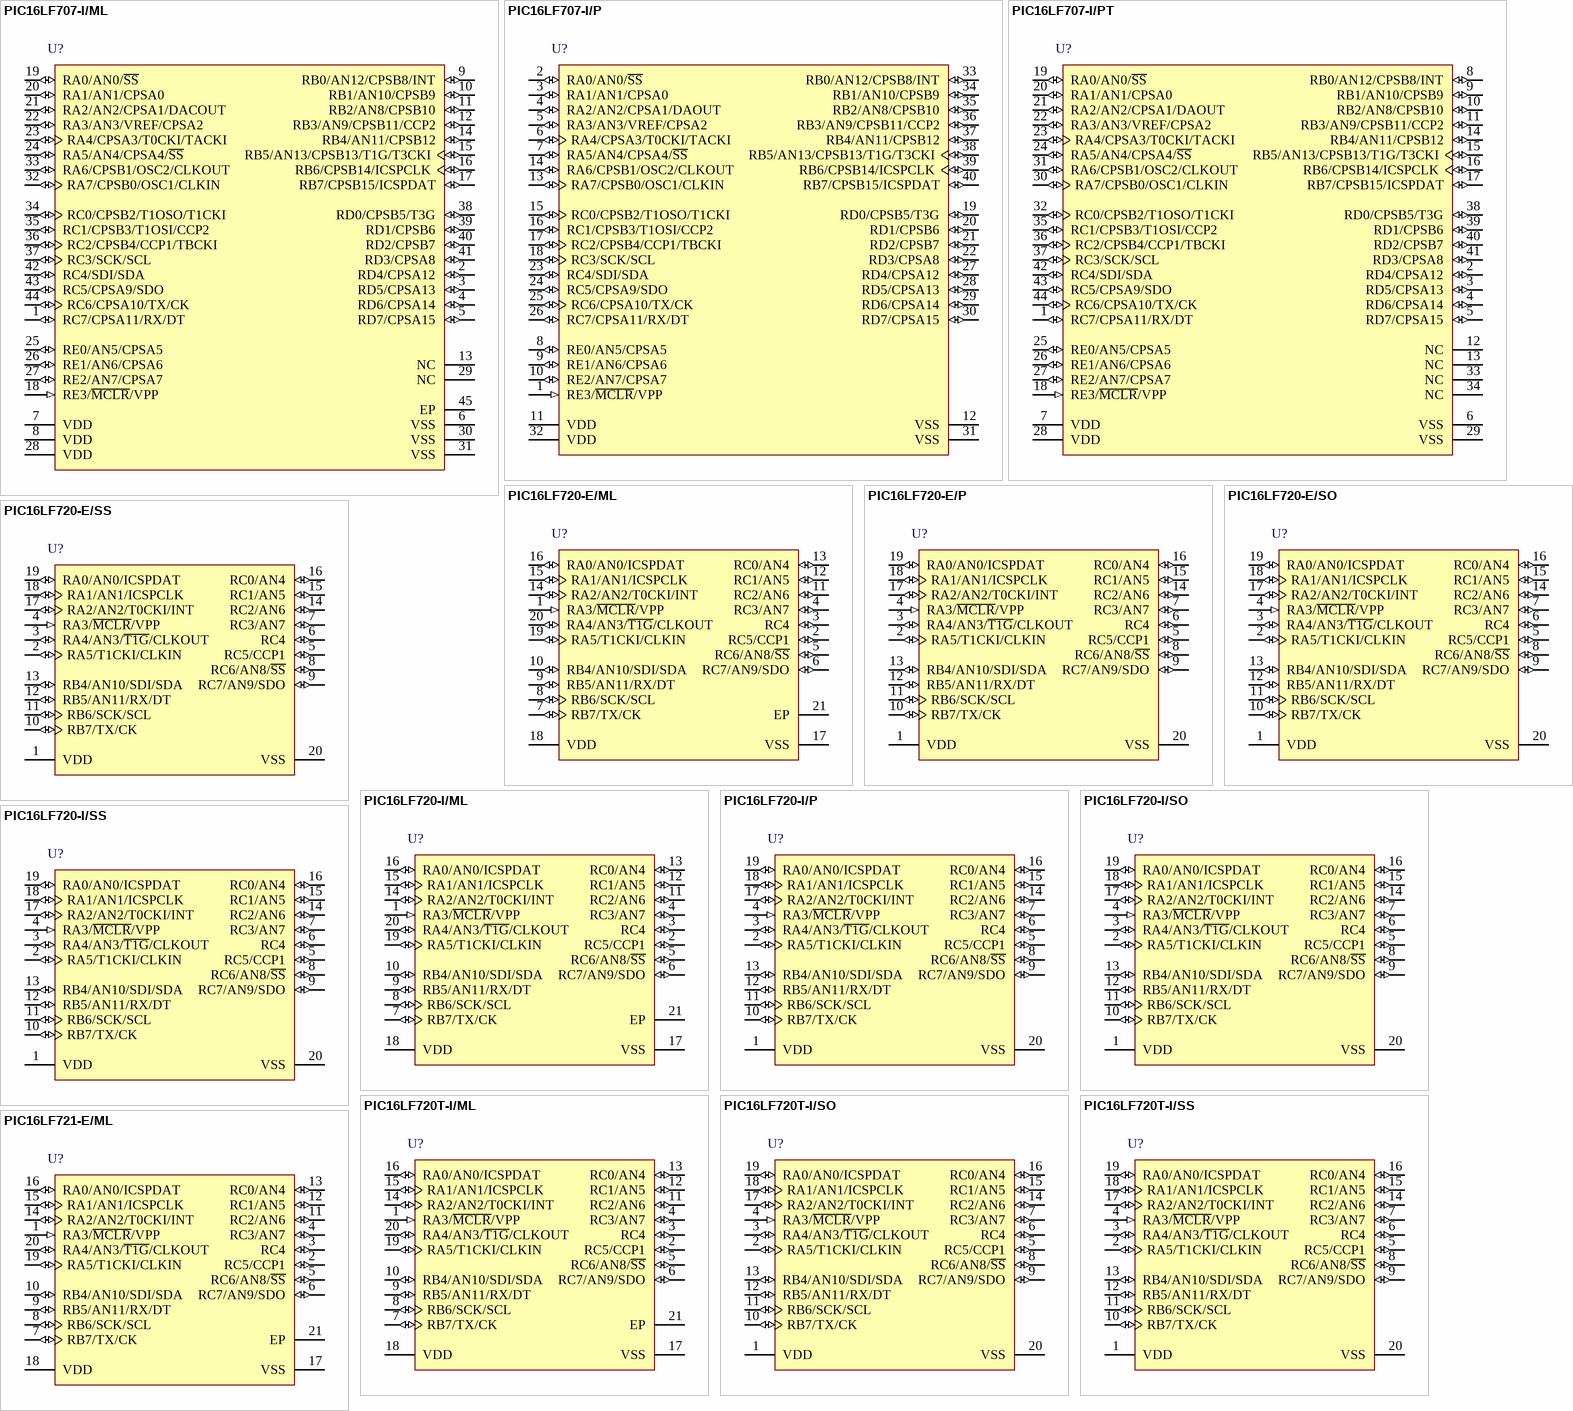
[diagram p76: symbols PIC16LF707-I/ML to PIC16LF721-E/ML]

## PIC16LF707-I/ML
designator U?
Flash Microcontroller with nanoWatt XLP and mTouch(TM) Technology, 20 MHz, 35 I/O, -40 to 85 degC, 44-pin QFN (ML44), Tube; Manufacturer: Microchip; PartNumber: PIC16LF707-I/ML; # of A/D Channels: 14; Digital Communication: 1 -A/E/USART, 1 -SSP(SPI/I2C); I/O Pins: 35; Internal Oscillator: 16 MHz, 500 kHz; Max. CPU Speed MHz: 20; Operation Voltage Range: 1.8V - 3.6V; Program Memory KWords: 8; RAM: 363; Timers: 3 - 8-bit, 1 - 16-bit; DatasheetVersion: Rev. B; PackageVersion: C04-103C, 12/2012; PackageReference: QFN-ML44; PackageDescription: 44-Lead Plastic Quad Flat, 8 x 8 mm Body, 0.65 mm Pitch; Supplier 1: Digi-Key; Supplier Part Number 1: PIC16LF707-I/ML-ND; Supplier 2: Farnell; Supplier Part Number 2: 1814955; Supplier 3: Newark; Supplier Part Number 3: 63R7811; Supplier 4: Mouser; Supplier Part Number 4: 579-PIC16LF707-I/ML; Memory Type: Flash; Packing: TUBE; Program Memory KBytes: 14; Mounting Technology: Surface Mount; ComponentLink1Description: Datasheet; ComponentLink1URL: http://ww1.microchip.com/downloads/en/DeviceDoc/41418B.pdf; ComponentLink2Description: Package Specification; ComponentLink2URL: http://www.microchip.com/stellent/groups/techpub_sg/documents/packagingspec/en012702.pdf; ComponentLink3Description: URL Link1; ComponentLink3URL: Product URL:http://www.microchip.com/datasheet/PIC16F707
footprint MCHP-QFN-ML44_N (QFN, 44-Leads, Body 8x8mm, Pitch 0.65mm, Thermal Pad 6.425x6.425mm, IPC Medium Density)
footprint MCHP-QFN-ML44_L (QFN, 44-Leads, Body 8x8mm, Pitch 0.65mm, Thermal Pad 6.425x6.425mm, IPC High Density)
footprint MCHP-QFN-ML44_M (QFN, 44-Leads, Body 8x8mm, Pitch 0.65mm, Thermal Pad 6.425x6.425mm, IPC Low Density)
pins: 1 RC7/CPSA11/RX/DT (io), 2 RD4/CPSA12 (io), 3 RD5/CPSA13 (io), 4 RD6/CPSA14 (io), 5 RD7/CPSA15 (io), 6 VSS (power) "Ground reference.", 7 VDD (power) "Positive supply.", 8 VDD (power) "Positive supply.", 9 RB0/AN12/CPSB8/INT (io), 10 RB1/AN10/CPSB9 (io), 11 RB2/AN8/CPSB10 (io), 12 RB3/AN9/CPSB11/CCP2 (io), 13 NC, 14 RB4/AN11/CPSB12 (io), 15 RB5/AN13/CPSB13/T1G/T3CKI (io), 16 RB6/CPSB14/ICSPCLK (io), 17 RB7/CPSB15/ICSPDAT (io), 18 RE3/~{MCLR}/VPP (in), 19 RA0/AN0/~{SS} (io), 20 RA1/AN1/CPSA0 (io), 21 RA2/AN2/CPSA1/DACOUT (io), 22 RA3/AN3/VREF/CPSA2 (io), 23 RA4/CPSA3/T0CKI/TACKI (io), 24 RA5/AN4/CPSA4/~{SS} (io), 25 RE0/AN5/CPSA5 (io), 26 RE1/AN6/CPSA6 (io), 27 RE2/AN7/CPSA7 (io), 28 VDD (power) "Positive supply.", 29 NC, 30 VSS (power) "Ground reference.", 31 VSS (power) "Ground reference.", 32 RA7/CPSB0/OSC1/CLKIN (io), 33 RA6/CPSB1/OSC2/CLKOUT (io), 34 RC0/CPSB2/T1OSO/T1CKI (io), 35 RC1/CPSB3/T1OSI/CCP2 (io), 36 RC2/CPSB4/CCP1/TBCKI (io), 37 RC3/SCK/SCL (io), 38 RD0/CPSB5/T3G (io), 39 RD1/CPSB6 (io), 40 RD2/CPSB7 (io), 41 RD3/CPSA8 (io), 42 RC4/SDI/SDA (io), 43 RC5/CPSA9/SDO (io), 44 RC6/CPSA10/TX/CK (io), 45 EP

## PIC16LF707-I/P
designator U?
Flash Microcontroller with nanoWatt XLP and mTouch(TM) Technology, 20 MHz, 35 I/O, -40 to 85 degC, 40-pin PDIP (P40), Tube; Manufacturer: Microchip; PartNumber: PIC16LF707-I/P; # of A/D Channels: 14; Digital Communication: 1 -A/E/USART, 1 -SSP(SPI/I2C); I/O Pins: 35; Internal Oscillator: 16 MHz, 500 kHz; Max. CPU Speed MHz: 20; Operation Voltage Range: 1.8V - 3.6V; Program Memory KWords: 8; RAM: 363; Timers: 3 - 8-bit, 1 - 16-bit; DatasheetVersion: Rev. B; PackageVersion: C04-016B, 04/2013; PackageReference: PDIP-P40; PackageDescription: 40-Lead Plastic Dual In-Line Package, Body 51.75 x 13.53 mm, Pitch 2.54 mm; Supplier 1: Digi-Key; Supplier Part Number 1: PIC16LF707-I/P-ND; Supplier 2: Farnell; Supplier Part Number 2: 1814956; Supplier 3: Newark; Supplier Part Number 3: 63R7812; Supplier 4: Mouser; Supplier Part Number 4: 579-PIC16LF707-I/P; Memory Type: Flash; Packing: TUBE; Program Memory KBytes: 14; Mounting Technology: Through Hole; ComponentLink1Description: Datasheet; ComponentLink1URL: http://ww1.microchip.com/downloads/en/DeviceDoc/41418B.pdf; ComponentLink2Description: Package Specification; ComponentLink2URL: http://www.microchip.com/stellent/groups/techpub_sg/documents/packagingspec/en012702.pdf; ComponentLink3Description: URL Link1; ComponentLink3URL: Product URL:http://www.microchip.com/datasheet/PIC16F707
footprint MCHP-PDIP-P40 (PDIP, 40-Leads, Body 51.75x13.53mm, Pitch 2.54mm)
pins: 1 RE3/~{MCLR}/VPP (in), 2 RA0/AN0/~{SS} (io), 3 RA1/AN1/CPSA0 (io), 4 RA2/AN2/CPSA1/DAOUT (io), 5 RA3/AN3/VREF/CPSA2 (io), 6 RA4/CPSA3/T0CKI/TACKI (io), 7 RA5/AN4/CPSA4/~{SS} (io), 8 RE0/AN5/CPSA5 (io), 9 RE1/AN6/CPSA6 (io), 10 RE2/AN7/CPSA7 (io), 11 VDD (power) "Positive supply.", 12 VSS (power) "Ground reference.", 13 RA7/CPSB0/OSC1/CLKIN (io), 14 RA6/CPSB1/OSC2/CLKOUT (io), 15 RC0/CPSB2/T1OSO/T1CKI (io), 16 RC1/CPSB3/T1OSI/CCP2 (io), 17 RC2/CPSB4/CCP1/TBCKI (io), 18 RC3/SCK/SCL (io), 19 RD0/CPSB5/T3G (io), 20 RD1/CPSB6 (io), 21 RD2/CPSB7 (io), 22 RD3/CPSA8 (io), 23 RC4/SDI/SDA (io), 24 RC5/CPSA9/SDO (io), 25 RC6/CPSA10/TX/CK (io), 26 RC7/CPSA11/RX/DT (io), 27 RD4/CPSA12 (io), 28 RD5/CPSA13 (io), 29 RD6/CPSA14 (io), 30 RD7/CPSA15 (io), 31 VSS (power) "Ground reference.", 32 VDD (power) "Positive supply.", 33 RB0/AN12/CPSB8/INT (io), 34 RB1/AN10/CPSB9 (io), 35 RB2/AN8/CPSB10 (io), 36 RB3/AN9/CPSB11/CCP2 (io), 37 RB4/AN11/CPSB12 (io), 38 RB5/AN13/CPSB13/T1G/T3CKI (io), 39 RB6/CPSB14/ICSPCLK (io), 40 RB7/CPSB15/ICSPDAT (io)

## PIC16LF707-I/PT
designator U?
Flash Microcontroller with nanoWatt XLP and mTouch(TM) Technology, 20 MHz, 35 I/O, -40 to 85 degC, 44-pin TQFP (PT44), Tray; Manufacturer: Microchip; PartNumber: PIC16LF707-I/PT; # of A/D Channels: 14; Digital Communication: 1 -A/E/USART, 1 -SSP(SPI/I2C); I/O Pins: 35; Internal Oscillator: 16 MHz, 500 kHz; Max. CPU Speed MHz: 20; Operation Voltage Range: 1.8V - 3.6V; Program Memory KWords: 8; RAM: 363; Timers: 3 - 8-bit, 1 - 16-bit; DatasheetVersion: Rev. B; PackageVersion: C04-076B, 12/2012; PackageReference: TQFP-PT44; PackageDescription: 44-Lead Plastic Thin Quad Flatpack, 10 x 10 mm Body, 0.8 mm Pitch; Supplier 1: Digi-Key; Supplier Part Number 1: PIC16LF707-I/PT-ND; Supplier 2: Farnell; Supplier Part Number 2: 1814957; Supplier 3: Newark; Supplier Part Number 3: 63R7813; Supplier 4: Mouser; Supplier Part Number 4: 579-PIC16LF707-I/PT; Memory Type: Flash; Packing: TRAY; Program Memory KBytes: 14; Mounting Technology: Surface Mount; ComponentLink1Description: Datasheet; ComponentLink1URL: http://ww1.microchip.com/downloads/en/DeviceDoc/41418B.pdf; ComponentLink2Description: Package Specification; ComponentLink2URL: http://www.microchip.com/stellent/groups/techpub_sg/documents/packagingspec/en012702.pdf; ComponentLink3Description: URL Link1; ComponentLink3URL: Product URL:http://www.microchip.com/datasheet/PIC16F707
footprint MCHP-TQFP-PT44_N (QFN, 44-Leads, Body 10x10mm, Pitch 0.8mm, IPC Medium Density)
footprint MCHP-TQFP-PT44_L (QFN, 44-Leads, Body 10x10mm, Pitch 0.8mm, IPC High Density)
footprint MCHP-TQFP-PT44_M (QFN, 44-Leads, Body 10x10mm, Pitch 0.8mm, IPC Low Density)
pins: 1 RC7/CPSA11/RX/DT (io), 2 RD4/CPSA12 (io), 3 RD5/CPSA13 (io), 4 RD6/CPSA14 (io), 5 RD7/CPSA15 (io), 6 VSS (power) "Ground reference.", 7 VDD (power) "Positive supply.", 8 RB0/AN12/CPSB8/INT (io), 9 RB1/AN10/CPSB9 (io), 10 RB2/AN8/CPSB10 (io), 11 RB3/AN9/CPSB11/CCP2 (io), 12 NC, 13 NC, 14 RB4/AN11/CPSB12 (io), 15 RB5/AN13/CPSB13/T1G/T3CKI (io), 16 RB6/CPSB14/ICSPCLK (io), 17 RB7/CPSB15/ICSPDAT (io), 18 RE3/~{MCLR}/VPP (in), 19 RA0/AN0/~{SS} (io), 20 RA1/AN1/CPSA0 (io), 21 RA2/AN2/CPSA1/DAOUT (io), 22 RA3/AN3/VREF/CPSA2 (io), 23 RA4/CPSA3/T0CKI/TACKI (io), 24 RA5/AN4/CPSA4/~{SS} (io), 25 RE0/AN5/CPSA5 (io), 26 RE1/AN6/CPSA6 (io), 27 RE2/AN7/CPSA7 (io), 28 VDD (power) "Positive supply.", 29 VSS (power) "Ground reference.", 30 RA7/CPSB0/OSC1/CLKIN (io), 31 RA6/CPSB1/OSC2/CLKOUT (io), 32 RC0/CPSB2/T1OSO/T1CKI (io), 33 NC, 34 NC, 35 RC1/CPSB3/T1OSI/CCP2 (io), 36 RC2/CPSB4/CCP1/TBCKI (io), 37 RC3/SCK/SCL (io), 38 RD0/CPSB5/T3G (io), 39 RD1/CPSB6 (io), 40 RD2/CPSB7 (io), 41 RD3/CPSA8 (io), 42 RC4/SDI/SDA (io), 43 RC5/CPSA9/SDO (io), 44 RC6/CPSA10/TX/CK (io)

## PIC16LF720-E/ML
designator U?
Flash Microcontroller, 16 MHz, 17 I/O, -40 to 125 degC, 20-pin QFN (ML20), Tube; Manufacturer: Microchip; PartNumber: PIC16LF720-E/ML; # of A/D Channels: 12; Digital Communication: 1 -A/E/USART, 1 -SSP(SPI/I2C); I/O Pins: 17; Internal Oscillator: 16 MHz, 500 kHz; Max. CPU Speed MHz: 16; Operation Voltage Range: 1.8V - 3.6V; Program Memory KBytes: 3.5; Program Memory KWords: 2; RAM: 128; Timers: 2 - 8-bit, 1 - 16-bit; DatasheetVersion: Rev. D; PackageVersion: C04-126B, 12/2012; PackageReference: QFN-ML20; PackageDescription: 20-Lead Plastic Quad Flat, No Lead Package, 4 x 4 mm Body, 0.5 mm Pitch; Supplier 1: Digi-Key; Supplier Part Number 1: PIC16LF720-E/ML-ND; Supplier 2: Mouser; Supplier Part Number 2: 579-PIC16LF720-E/ML; Memory Type: Flash; Packing: TUBE; Mounting Technology: Surface Mount; ComponentLink1Description: Datasheet; ComponentLink1URL: http://ww1.microchip.com/downloads/en/DeviceDoc/41430D.pdf; ComponentLink2Description: Package Specification; ComponentLink2URL: http://www.microchip.com/stellent/groups/techpub_sg/documents/packagingspec/en012702.pdf; ComponentLink3Description: URL Link1; ComponentLink3URL: Product URL:http://www.microchip.com/datasheet/PIC16F720
footprint MCHP-QFN-ML20_N (QFN, 20-Leads, Body 4x4mm, Pitch 0.5mm, Thermal Pad 2.7x2.7mm, IPC Medium Density)
footprint MCHP-QFN-ML20_L (QFN, 20-Leads, Body 4x4mm, Pitch 0.5mm, Thermal Pad 2.7x2.7mm, IPC High Density)
footprint MCHP-QFN-ML20_M (QFN, 20-Leads, Body 4x4mm, Pitch 0.5mm, Thermal Pad 2.7x2.7mm, IPC Low Density)
pins: 1 RA3/~{MCLR}/VPP (in), 2 RC5/CCP1 (io), 3 RC4 (io) "General purpose I/O.", 4 RC3/AN7 (io), 5 RC6/AN8/~{SS} (io), 6 RC7/AN9/SDO (io), 7 RB7/TX/CK (io), 8 RB6/SCK/SCL (io), 9 RB5/AN11/RX/DT (io), 10 RB4/AN10/SDI/SDA (io), 11 RC2/AN6 (io), 12 RC1/AN5 (io), 13 RC0/AN4 (io), 14 RA2/AN2/T0CKI/INT (io), 15 RA1/AN1/ICSPCLK (io), 16 RA0/AN0/ICSPDAT (io), 17 VSS (power) "Ground supply", 18 VDD (power) "Positive supply", 19 RA5/T1CKI/CLKIN (io), 20 RA4/AN3/~{T1G}/CLKOUT (io), 21 EP

## PIC16LF720-E/P
designator U?
Flash Microcontroller, 16 MHz, 17 I/O, -40 to 125 degC, 20-pin PDIP (P20), Tube; Manufacturer: Microchip; PartNumber: PIC16LF720-E/P; # of A/D Channels: 12; Digital Communication: 1 -A/E/USART, 1 -SSP(SPI/I2C); I/O Pins: 17; Internal Oscillator: 16 MHz, 500 kHz; Max. CPU Speed MHz: 16; Operation Voltage Range: 1.8V - 3.6V; Program Memory KBytes: 3.5; Program Memory KWords: 2; RAM: 128; Timers: 2 - 8-bit, 1 - 16-bit; DatasheetVersion: Rev. D; PackageVersion: C04-019B, 12/2012; PackageReference: PDIP-P20; PackageDescription: 20-Lead Plastic Dual In-Line, Row Spacing 7.62 mm, 25.91 x 6.6 mm Body, 2.54 mm Pitch; Supplier 1: Digi-Key; Supplier Part Number 1: PIC16LF720-E/P-ND; Supplier 2: Mouser; Supplier Part Number 2: 579-PIC16LF720-E/P; Memory Type: Flash; Packing: TUBE; Mounting Technology: Through Hole; ComponentLink1Description: Datasheet; ComponentLink1URL: http://ww1.microchip.com/downloads/en/DeviceDoc/41430D.pdf; ComponentLink2Description: Package Specification; ComponentLink2URL: http://www.microchip.com/stellent/groups/techpub_sg/documents/packagingspec/en012702.pdf; ComponentLink3Description: URL Link1; ComponentLink3URL: Product URL:http://www.microchip.com/datasheet/PIC16F720
footprint MCHP-PDIP-P20 (DIP, 20-Leads, Body 25.91x6.6mm, Pitch 2.54mm)
pins: 1 VDD (power) "Positive supply.", 2 RA5/T1CKI/CLKIN (io), 3 RA4/AN3/~{T1G}/CLKOUT (io), 4 RA3/~{MCLR}/VPP (in), 5 RC5/CCP1 (io), 6 RC4 (io) "General purpose I/O.", 7 RC3/AN7 (io), 8 RC6/AN8/~{SS} (io), 9 RC7/AN9/SDO (io), 10 RB7/TX/CK (io), 11 RB6/SCK/SCL (io), 12 RB5/AN11/RX/DT (io), 13 RB4/AN10/SDI/SDA (io), 14 RC2/AN6 (io), 15 RC1/AN5 (io), 16 RC0/AN4 (io), 17 RA2/AN2/T0CKI/INT (io), 18 RA1/AN1/ICSPCLK (io), 19 RA0/AN0/ICSPDAT (io), 20 VSS (power) "Ground supply."

## PIC16LF720-E/SO
designator U?
Flash Microcontroller, 16 MHz, 17 I/O, -40 to 125 degC, 20-pin SOIC (SO20), Tube; Manufacturer: Microchip; PartNumber: PIC16LF720-E/SO; # of A/D Channels: 12; Digital Communication: 1 -A/E/USART, 1 -SSP(SPI/I2C); I/O Pins: 17; Internal Oscillator: 16 MHz, 500 kHz; Max. CPU Speed MHz: 16; Operation Voltage Range: 1.8V - 3.6V; Program Memory KBytes: 3.5; Program Memory KWords: 2; RAM: 128; Timers: 2 - 8-bit, 1 - 16-bit; DatasheetVersion: Rev. D; PackageVersion: C04-094C, 12/2012; PackageReference: SOIC-SO20; PackageDescription: 20-Lead Plastic Small Outline, 7.5 x 12.8 mm Body, 1.27 mm Pitch; Supplier 1: Digi-Key; Supplier Part Number 1: PIC16LF720-E/SO-ND; Supplier 2: Mouser; Supplier Part Number 2: 579-PIC16LF720-E/SO; Memory Type: Flash; Packing: TUBE; Mounting Technology: Surface Mount; ComponentLink1Description: Datasheet; ComponentLink1URL: http://ww1.microchip.com/downloads/en/DeviceDoc/41430D.pdf; ComponentLink2Description: Package Specification; ComponentLink2URL: http://www.microchip.com/stellent/groups/techpub_sg/documents/packagingspec/en012702.pdf; ComponentLink3Description: URL Link1; ComponentLink3URL: Product URL:http://www.microchip.com/datasheet/PIC16F720
footprint MCHP-SOIC-SO20_N (SOIC, 20-Leads, Body 12.8x7.5mm, Pitch 1.27mm, IPC Medium Density)
footprint MCHP-SOIC-SO20_L (SOIC, 20-Leads, Body 12.8x7.5mm, Pitch 1.27mm, IPC High Density)
footprint MCHP-SOIC-SO20_M (SOIC, 20-Leads, Body 12.8x7.5mm, Pitch 1.27mm, IPC Low Density)
pins: 1 VDD (power) "Positive supply.", 2 RA5/T1CKI/CLKIN (io), 3 RA4/AN3/~{T1G}/CLKOUT (io), 4 RA3/~{MCLR}/VPP (in), 5 RC5/CCP1 (io), 6 RC4 (io) "General purpose I/O.", 7 RC3/AN7 (io), 8 RC6/AN8/~{SS} (io), 9 RC7/AN9/SDO (io), 10 RB7/TX/CK (io), 11 RB6/SCK/SCL (io), 12 RB5/AN11/RX/DT (io), 13 RB4/AN10/SDI/SDA (io), 14 RC2/AN6 (io), 15 RC1/AN5 (io), 16 RC0/AN4 (io), 17 RA2/AN2/T0CKI/INT (io), 18 RA1/AN1/ICSPCLK (io), 19 RA0/AN0/ICSPDAT (io), 20 VSS (power) "Ground supply."

## PIC16LF720-E/SS
designator U?
Flash Microcontroller, 16 MHz, 17 I/O, -40 to 125 degC, 20-pin SSOP (SS20), Tube; Manufacturer: Microchip; PartNumber: PIC16LF720-E/SS; # of A/D Channels: 12; Digital Communication: 1 -A/E/USART, 1 -SSP(SPI/I2C); I/O Pins: 17; Internal Oscillator: 16 MHz, 500 kHz; Max. CPU Speed MHz: 16; Operation Voltage Range: 1.8V - 3.6V; Program Memory KBytes: 3.5; Program Memory KWords: 2; RAM: 128; Timers: 2 - 8-bit, 1 - 16-bit; DatasheetVersion: Rev. D; PackageVersion: C04-072B, 12/2012; PackageReference: SSOP-SS20; PackageDescription: 20-Lead Plastic Shrink Small Outline, 5.3 x 7.2 mm Body, 0.65 mm Pitch; Supplier 1: Digi-Key; Supplier Part Number 1: PIC16LF720-E/SS-ND; Supplier 2: Mouser; Supplier Part Number 2: 579-PIC16LF720-E/SS; Memory Type: Flash; Packing: TUBE; Mounting Technology: Surface Mount; ComponentLink1Description: Datasheet; ComponentLink1URL: http://ww1.microchip.com/downloads/en/DeviceDoc/41430D.pdf; ComponentLink2Description: Package Specification; ComponentLink2URL: http://www.microchip.com/stellent/groups/techpub_sg/documents/packagingspec/en012702.pdf; ComponentLink3Description: URL Link1; ComponentLink3URL: Product URL:http://www.microchip.com/datasheet/PIC16F720
footprint MCHP-SSOP-SS20_N (SOP, 20-Leads, Body 7.2x5.3mm, Pitch 0.65mm, IPC Medium Density)
footprint MCHP-SSOP-SS20_L (SOP, 20-Leads, Body 7.2x5.3mm, Pitch 0.65mm, IPC High Density)
footprint MCHP-SSOP-SS20_M (SOP, 20-Leads, Body 7.2x5.3mm, Pitch 0.65mm, IPC Low Density)
pins: 1 VDD (power) "Positive supply.", 2 RA5/T1CKI/CLKIN (io), 3 RA4/AN3/~{T1G}/CLKOUT (io), 4 RA3/~{MCLR}/VPP (in), 5 RC5/CCP1 (io), 6 RC4 (io) "General purpose I/O.", 7 RC3/AN7 (io), 8 RC6/AN8/~{SS} (io), 9 RC7/AN9/SDO (io), 10 RB7/TX/CK (io), 11 RB6/SCK/SCL (io), 12 RB5/AN11/RX/DT (io), 13 RB4/AN10/SDI/SDA (io), 14 RC2/AN6 (io), 15 RC1/AN5 (io), 16 RC0/AN4 (io), 17 RA2/AN2/T0CKI/INT (io), 18 RA1/AN1/ICSPCLK (io), 19 RA0/AN0/ICSPDAT (io), 20 VSS (power) "Ground supply."